# EAGLE library part TS3A27518E (library EXCISS)
TS3A27518E 6-Bit, 1-of-2 Mux/Demux with 240 MHz Bandwidth Links Datasheet <http://www.ti.com/lit/gpn/ts3a27518e> Product website <http://www.ti.com/product/TS3A27518E>
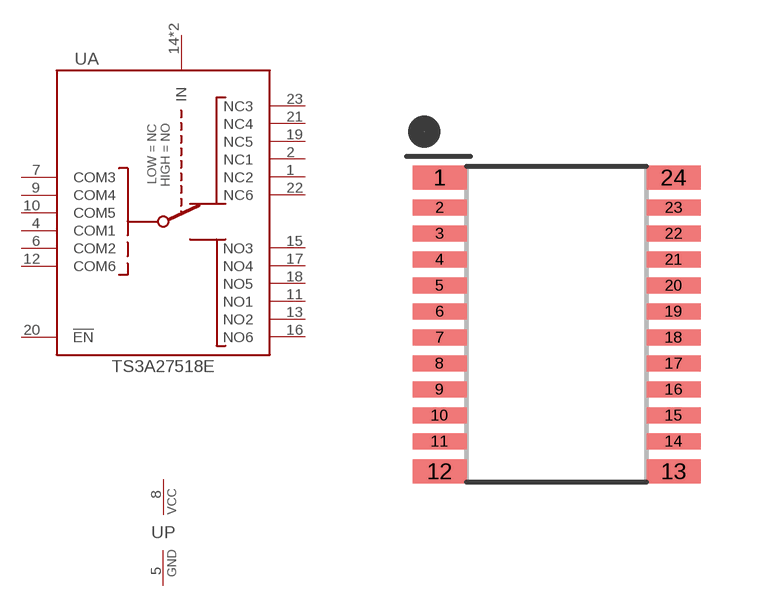
[diagram p3: symbol with the pads of TSSOP24; footprint TSSOP24]

Designator prefix U; gates A=TS3A27518E P=POWER

## TS3A27518E (OC_MOUSER: 595-TS3A27518EIPWRQ1)  [TSSOP24]
1  A:NC2
2  A:NC1
4  A:COM1
5  P:GND  pwr
6  A:COM2
7  A:COM3
8  P:VCC  pwr
9  A:COM4
10  A:COM5
11  A:NO1
12  A:COM6
13  A:NO2
14  A:IN  in
15  A:NO3
16  A:NO6
17  A:NO4
18  A:NO5
19  A:NC5
20  A:!EN
21  A:NC4
22  A:NC6
23  A:NC3
24  A:IN  in

## Footprint TSSOP24 (pad centres in mm)
smd 1.35 x 0.6: 1 -2.925,3.675; 12 -2.925,-3.675; 13 2.925,-3.675; 24 2.925,3.675
smd 1.35 x 0.4: 2 -2.925,2.925; 3 -2.925,2.275; 4 -2.925,1.625; 5 -2.925,0.975; 6 -2.925,0.325; 7 -2.925,-0.325; 8 -2.925,-0.975; 9 -2.925,-1.625; 10 -2.925,-2.275; 11 -2.925,-2.925; 14 2.925,-2.925; 15 2.925,-2.275; 16 2.925,-1.625; 17 2.925,-0.975; 18 2.925,-0.325; 19 2.925,0.325; 20 2.925,0.975; 21 2.925,1.625; 22 2.925,2.275; 23 2.925,2.925